# Altium footprint library Connector_Wuerth.PcbLib: 46 footprints (part 3 of 3)
Each footprint in its own frame and in the unit in brackets; x right, y up, seen from the top. Pads: shape width x height; smd on the part's side, far side on the other; paste and mask are expansions set on the pad; w line width, h text height; cw(c..) or ccw(c..) is an arc to the next point about the centre after c.
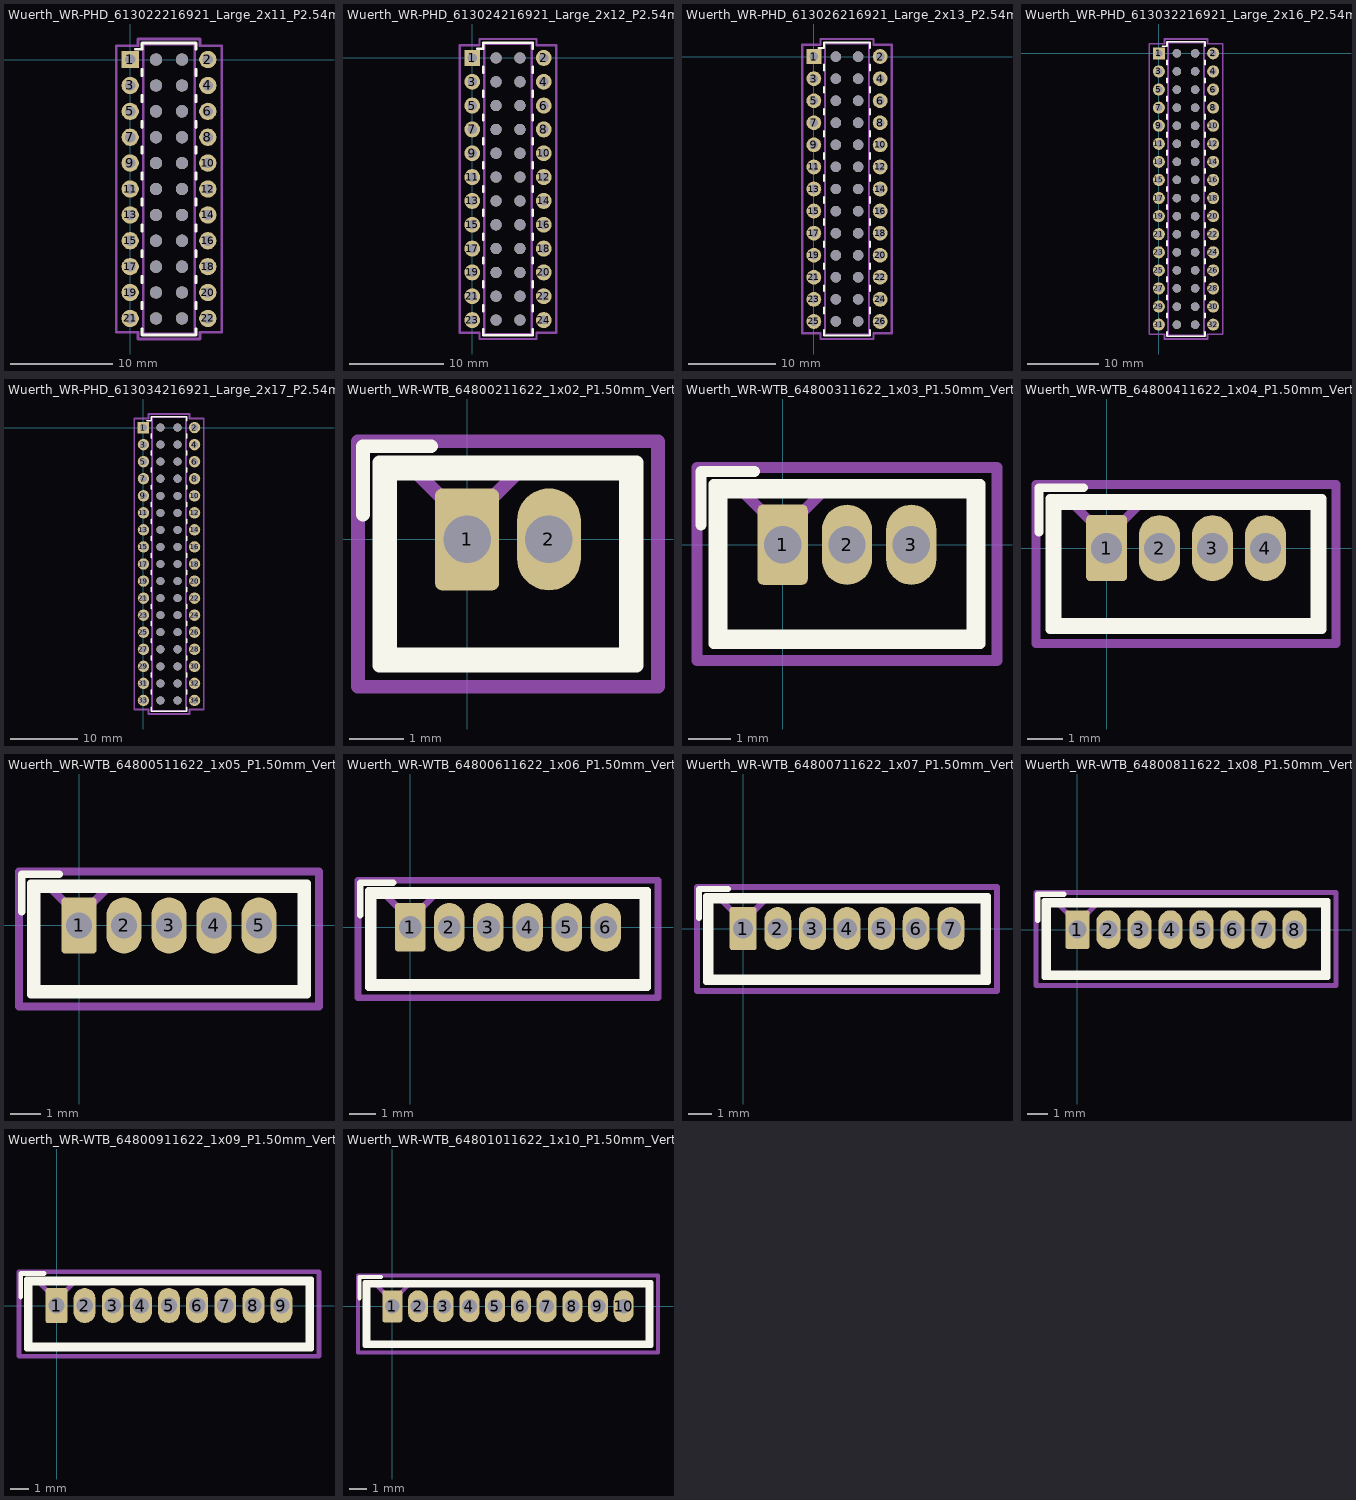
[diagram p2: the footprints below, top view; thin cyan lines are the x and y axes]

## Wuerth_WR-PHD_613022216921_Large_2x11_P2.54mm_Vertical [mm]
pads (44):
  rect 1.7x1.7 hole 1: 1(0,0)
  round 1.7 hole 1: 2(7.62,0) 3(0,-2.54) 4(7.62,-2.54) 5(0,-5.08) 6(7.62,-5.08) 7(0,-7.62) 8(7.62,-7.62) 9(0,-10.16) 10(7.62,-10.16) 11(0,-12.7) 12(7.62,-12.7) 13(0,-15.24) 14(7.62,-15.24) 15(0,-17.78) 16(7.62,-17.78) 17(0,-20.32) 18(7.62,-20.32) 19(0,-22.86) 20(7.62,-22.86) 21(0,-25.4) 22(7.62,-25.4)
  round 1.2 hole 1.2: Un1(2.54,0) Un2(2.54,-2.54) Un3(2.54,-5.08) Un4(2.54,-7.62) Un5(2.54,-10.16) Un6(2.54,-12.7) Un7(2.54,-15.24) Un8(2.54,-17.78) Un9(2.54,-20.32) Un10(2.54,-22.86) Un11(2.54,-25.4) Un12(5.08,0) Un13(5.08,-2.54) Un14(5.08,-5.08) Un15(5.08,-7.62) Un16(5.08,-10.16) Un17(5.08,-12.7) Un18(5.08,-15.24) Un19(5.08,-17.78) Un20(5.08,-20.32) Un21(5.08,-22.86) Un22(5.08,-25.4)
F.SilkS:
  lines w0.254: 0.525,0.995 1.16,0.995 1.16,1.63 6.46,1.63 6.46,0.995 ; 1.16,-26.395 1.16,-27.03 6.46,-27.03 6.46,-26.395 ; 1.16,-24.447 1.16,-23.812 ; 1.16,-21.907 1.16,-21.273 ; 1.16,-19.367 1.16,-18.732 ; 1.16,-16.828 1.16,-16.192 ; 1.16,-14.287 1.16,-13.652 ; 1.16,-11.747 1.16,-11.112 ; 1.16,-9.207 1.16,-8.572 ; 1.16,-6.667 1.16,-6.032 ; 1.16,-4.127 1.16,-3.492 ; 1.16,-1.587 1.16,-0.953 ; 6.46,-24.447 6.46,-23.812 ; 6.46,-21.907 6.46,-21.273 ; 6.46,-19.367 6.46,-18.732 ; 6.46,-16.828 6.46,-16.192 ; 6.46,-14.287 6.46,-13.652 ; 6.46,-11.747 6.46,-11.112 ; 6.46,-9.207 6.46,-8.572 ; 6.46,-6.667 6.46,-6.032 ; 6.46,-4.127 6.46,-3.492 ; 6.46,-1.587 6.46,-0.953
Top Assembly:
  lines w0.254: 1.27,-26.92 6.35,-26.92 6.35,1.52 1.27,1.52 1.27,-26.92
  text "'.Designator'" at -0.237,-0.02 h1
Top Courtyard:
  lines w0.254: -1.35,-26.75 0.77,-26.75 0.77,-27.42 6.85,-27.42 6.85,-26.75 8.97,-26.75 8.97,1.35 6.85,1.35 6.85,2.02 0.77,2.02 0.77,1.35 -1.35,1.35 -1.35,-26.75
Top Designator:
  text ".Designator" at -3.808,-13.208 h1.52

## Wuerth_WR-PHD_613024216921_Large_2x12_P2.54mm_Vertical [mm]
pads (48):
  rect 1.7x1.7 hole 1: 1(0,0)
  round 1.7 hole 1: 2(7.62,0) 3(0,-2.54) 4(7.62,-2.54) 5(0,-5.08) 6(7.62,-5.08) 7(0,-7.62) 8(7.62,-7.62) 9(0,-10.16) 10(7.62,-10.16) 11(0,-12.7) 12(7.62,-12.7) 13(0,-15.24) 14(7.62,-15.24) 15(0,-17.78) 16(7.62,-17.78) 17(0,-20.32) 18(7.62,-20.32) 19(0,-22.86) 20(7.62,-22.86) 21(0,-25.4) 22(7.62,-25.4) 23(0,-27.94) 24(7.62,-27.94)
  round 1.2 hole 1.2: Un1(2.54,0) Un2(2.54,-2.54) Un3(2.54,-5.08) Un4(2.54,-7.62) Un5(2.54,-10.16) Un6(2.54,-12.7) Un7(2.54,-15.24) Un8(2.54,-17.78) Un9(2.54,-20.32) Un10(2.54,-22.86) Un11(2.54,-25.4) Un12(2.54,-27.94) Un13(5.08,0) Un14(5.08,-2.54) Un15(5.08,-5.08) Un16(5.08,-7.62) Un17(5.08,-10.16) Un18(5.08,-12.7) Un19(5.08,-15.24) Un20(5.08,-17.78) Un21(5.08,-20.32) Un22(5.08,-22.86) Un23(5.08,-25.4) Un24(5.08,-27.94)
F.SilkS:
  lines w0.254: 0.525,0.995 1.16,0.995 1.16,1.63 6.46,1.63 6.46,0.995 ; 1.16,-28.935 1.16,-29.57 6.46,-29.57 6.46,-28.935 ; 1.16,-26.987 1.16,-26.352 ; 1.16,-24.447 1.16,-23.812 ; 1.16,-21.907 1.16,-21.273 ; 1.16,-19.367 1.16,-18.732 ; 1.16,-16.828 1.16,-16.192 ; 1.16,-14.287 1.16,-13.652 ; 1.16,-11.747 1.16,-11.112 ; 1.16,-9.207 1.16,-8.572 ; 1.16,-6.667 1.16,-6.032 ; 1.16,-4.127 1.16,-3.492 ; 1.16,-1.587 1.16,-0.953 ; 6.46,-26.987 6.46,-26.352 ; 6.46,-24.447 6.46,-23.812 ; 6.46,-21.907 6.46,-21.273 ; 6.46,-19.367 6.46,-18.732 ; 6.46,-16.828 6.46,-16.192 ; 6.46,-14.287 6.46,-13.652 ; 6.46,-11.747 6.46,-11.112 ; 6.46,-9.207 6.46,-8.572 ; 6.46,-6.667 6.46,-6.032 ; 6.46,-4.127 6.46,-3.492 ; 6.46,-1.587 6.46,-0.953
Top Assembly:
  lines w0.254: 1.27,-29.46 6.35,-29.46 6.35,1.52 1.27,1.52 1.27,-29.46
  text "'.Designator'" at -0.237,-0.02 h1
Top Courtyard:
  lines w0.254: -1.35,-29.29 0.77,-29.29 0.77,-29.96 6.85,-29.96 6.85,-29.29 8.97,-29.29 8.97,1.35 6.85,1.35 6.85,2.02 0.77,2.02 0.77,1.35 -1.35,1.35 -1.35,-29.29
Top Designator:
  text ".Designator" at -3.808,-14.478 h1.52

## Wuerth_WR-PHD_613026216921_Large_2x13_P2.54mm_Vertical [mm]
pads (52):
  rect 1.7x1.7 hole 1: 1(0,0)
  round 1.7 hole 1: 2(7.62,0) 3(0,-2.54) 4(7.62,-2.54) 5(0,-5.08) 6(7.62,-5.08) 7(0,-7.62) 8(7.62,-7.62) 9(0,-10.16) 10(7.62,-10.16) 11(0,-12.7) 12(7.62,-12.7) 13(0,-15.24) 14(7.62,-15.24) 15(0,-17.78) 16(7.62,-17.78) 17(0,-20.32) 18(7.62,-20.32) 19(0,-22.86) 20(7.62,-22.86) 21(0,-25.4) 22(7.62,-25.4) 23(0,-27.94) 24(7.62,-27.94) 25(0,-30.48) 26(7.62,-30.48)
  round 1.2 hole 1.2: Un1(2.54,0) Un2(2.54,-2.54) Un3(2.54,-5.08) Un4(2.54,-7.62) Un5(2.54,-10.16) Un6(2.54,-12.7) Un7(2.54,-15.24) Un8(2.54,-17.78) Un9(2.54,-20.32) Un10(2.54,-22.86) Un11(2.54,-25.4) Un12(2.54,-27.94) Un13(2.54,-30.48) Un14(5.08,0) Un15(5.08,-2.54) Un16(5.08,-5.08) Un17(5.08,-7.62) Un18(5.08,-10.16) Un19(5.08,-12.7) Un20(5.08,-15.24) Un21(5.08,-17.78) Un22(5.08,-20.32) Un23(5.08,-22.86) Un24(5.08,-25.4) Un25(5.08,-27.94) Un26(5.08,-30.48)
F.SilkS:
  lines w0.254: 0.525,0.995 1.16,0.995 1.16,1.63 6.46,1.63 6.46,0.995 ; 1.16,-31.475 1.16,-32.11 6.46,-32.11 6.46,-31.475 ; 1.16,-29.527 1.16,-28.892 ; 1.16,-26.987 1.16,-26.352 ; 1.16,-24.447 1.16,-23.812 ; 1.16,-21.907 1.16,-21.273 ; 1.16,-19.367 1.16,-18.732 ; 1.16,-16.828 1.16,-16.192 ; 1.16,-14.287 1.16,-13.652 ; 1.16,-11.747 1.16,-11.112 ; 1.16,-9.207 1.16,-8.572 ; 1.16,-6.667 1.16,-6.032 ; 1.16,-4.127 1.16,-3.492 ; 1.16,-1.587 1.16,-0.953 ; 6.46,-29.527 6.46,-28.892 ; 6.46,-26.987 6.46,-26.352 ; 6.46,-24.447 6.46,-23.812 ; 6.46,-21.907 6.46,-21.273 ; 6.46,-19.367 6.46,-18.732 ; 6.46,-16.828 6.46,-16.192 ; 6.46,-14.287 6.46,-13.652 ; 6.46,-11.747 6.46,-11.112 ; 6.46,-9.207 6.46,-8.572 ; 6.46,-6.667 6.46,-6.032 ; 6.46,-4.127 6.46,-3.492 ; 6.46,-1.587 6.46,-0.953
Top Assembly:
  lines w0.254: 1.27,-32 6.35,-32 6.35,1.52 1.27,1.52 1.27,-32
  text "'.Designator'" at -0.237,-0.02 h1
Top Courtyard:
  lines w0.254: -1.35,-31.83 0.77,-31.83 0.77,-32.5 6.85,-32.5 6.85,-31.83 8.97,-31.83 8.97,1.35 6.85,1.35 6.85,2.02 0.77,2.02 0.77,1.35 -1.35,1.35 -1.35,-31.83
Top Designator:
  text ".Designator" at -3.808,-15.748 h1.52

## Wuerth_WR-PHD_613032216921_Large_2x16_P2.54mm_Vertical [mm]
pads (64):
  rect 1.7x1.7 hole 1: 1(0,0)
  round 1.7 hole 1: 2(7.62,0) 3(0,-2.54) 4(7.62,-2.54) 5(0,-5.08) 6(7.62,-5.08) 7(0,-7.62) 8(7.62,-7.62) 9(0,-10.16) 10(7.62,-10.16) 11(0,-12.7) 12(7.62,-12.7) 13(0,-15.24) 14(7.62,-15.24) 15(0,-17.78) 16(7.62,-17.78) 17(0,-20.32) 18(7.62,-20.32) 19(0,-22.86) 20(7.62,-22.86) 21(0,-25.4) 22(7.62,-25.4) 23(0,-27.94) 24(7.62,-27.94) 25(0,-30.48) 26(7.62,-30.48) 27(0,-33.02) 28(7.62,-33.02) 29(0,-35.56) 30(7.62,-35.56) 31(0,-38.1) 32(7.62,-38.1)
  round 1.2 hole 1.2: Un1(2.54,0) Un2(2.54,-2.54) Un3(2.54,-5.08) Un4(2.54,-7.62) Un5(2.54,-10.16) Un6(2.54,-12.7) Un7(2.54,-15.24) Un8(2.54,-17.78) Un9(2.54,-20.32) Un10(2.54,-22.86) Un11(2.54,-25.4) Un12(2.54,-27.94) Un13(2.54,-30.48) Un14(2.54,-33.02) Un15(2.54,-35.56) Un16(2.54,-38.1) Un17(5.08,0) Un18(5.08,-2.54) Un19(5.08,-5.08) Un20(5.08,-7.62) Un21(5.08,-10.16) Un22(5.08,-12.7) Un23(5.08,-15.24) Un24(5.08,-17.78) Un25(5.08,-20.32) Un26(5.08,-22.86) Un27(5.08,-25.4) Un28(5.08,-27.94) Un29(5.08,-30.48) Un30(5.08,-33.02) Un31(5.08,-35.56) Un32(5.08,-38.1)
F.SilkS:
  lines w0.254: 0.525,0.995 1.16,0.995 1.16,1.63 6.46,1.63 6.46,0.995 ; 1.16,-39.095 1.16,-39.73 6.46,-39.73 6.46,-39.095 ; 1.16,-37.148 1.16,-36.512 ; 1.16,-34.608 1.16,-33.972 ; 1.16,-32.067 1.16,-31.432 ; 1.16,-29.527 1.16,-28.892 ; 1.16,-26.987 1.16,-26.352 ; 1.16,-24.447 1.16,-23.812 ; 1.16,-21.907 1.16,-21.273 ; 1.16,-19.367 1.16,-18.732 ; 1.16,-16.828 1.16,-16.192 ; 1.16,-14.287 1.16,-13.652 ; 1.16,-11.747 1.16,-11.112 ; 1.16,-9.207 1.16,-8.572 ; 1.16,-6.667 1.16,-6.032 ; 1.16,-4.127 1.16,-3.492 ; 1.16,-1.587 1.16,-0.953 ; 6.46,-37.148 6.46,-36.512 ; 6.46,-34.608 6.46,-33.972 ; 6.46,-32.067 6.46,-31.432 ; 6.46,-29.527 6.46,-28.892 ; 6.46,-26.987 6.46,-26.352 ; 6.46,-24.447 6.46,-23.812 ; 6.46,-21.907 6.46,-21.273 ; 6.46,-19.367 6.46,-18.732 ; 6.46,-16.828 6.46,-16.192 ; 6.46,-14.287 6.46,-13.652 ; 6.46,-11.747 6.46,-11.112 ; 6.46,-9.207 6.46,-8.572 ; 6.46,-6.667 6.46,-6.032 ; 6.46,-4.127 6.46,-3.492 ; 6.46,-1.587 6.46,-0.953
Top Assembly:
  lines w0.254: 1.27,-39.62 6.35,-39.62 6.35,1.52 1.27,1.52 1.27,-39.62
  text "'.Designator'" at -0.237,-0.02 h1
Top Courtyard:
  lines w0.254: -1.35,-39.45 0.77,-39.45 0.77,-40.12 6.85,-40.12 6.85,-39.45 8.97,-39.45 8.97,1.35 6.85,1.35 6.85,2.02 0.77,2.02 0.77,1.35 -1.35,1.35 -1.35,-39.45
Top Designator:
  text ".Designator" at -3.808,-19.558 h1.52

## Wuerth_WR-PHD_613034216921_Large_2x17_P2.54mm_Vertical [mm]
pads (68):
  rect 1.7x1.7 hole 1: 1(0,0)
  round 1.7 hole 1: 2(7.62,0) 3(0,-2.54) 4(7.62,-2.54) 5(0,-5.08) 6(7.62,-5.08) 7(0,-7.62) 8(7.62,-7.62) 9(0,-10.16) 10(7.62,-10.16) 11(0,-12.7) 12(7.62,-12.7) 13(0,-15.24) 14(7.62,-15.24) 15(0,-17.78) 16(7.62,-17.78) 17(0,-20.32) 18(7.62,-20.32) 19(0,-22.86) 20(7.62,-22.86) 21(0,-25.4) 22(7.62,-25.4) 23(0,-27.94) 24(7.62,-27.94) 25(0,-30.48) 26(7.62,-30.48) 27(0,-33.02) 28(7.62,-33.02) 29(0,-35.56) 30(7.62,-35.56) 31(0,-38.1) 32(7.62,-38.1) 33(0,-40.64) 34(7.62,-40.64)
  round 1.2 hole 1.2: Un1(2.54,0) Un2(2.54,-2.54) Un3(2.54,-5.08) Un4(2.54,-7.62) Un5(2.54,-10.16) Un6(2.54,-12.7) Un7(2.54,-15.24) Un8(2.54,-17.78) Un9(2.54,-20.32) Un10(2.54,-22.86) Un11(2.54,-25.4) Un12(2.54,-27.94) Un13(2.54,-30.48) Un14(2.54,-33.02) Un15(2.54,-35.56) Un16(2.54,-38.1) Un17(2.54,-40.64) Un18(5.08,0) Un19(5.08,-2.54) Un20(5.08,-5.08) Un21(5.08,-7.62) Un22(5.08,-10.16) Un23(5.08,-12.7) Un24(5.08,-15.24) Un25(5.08,-17.78) Un26(5.08,-20.32) Un27(5.08,-22.86) Un28(5.08,-25.4) Un29(5.08,-27.94) Un30(5.08,-30.48) Un31(5.08,-33.02) Un32(5.08,-35.56) Un33(5.08,-38.1) Un34(5.08,-40.64)
F.SilkS:
  lines w0.254: 0.525,0.995 1.16,0.995 1.16,1.63 6.46,1.63 6.46,0.995 ; 1.16,-41.635 1.16,-42.27 6.46,-42.27 6.46,-41.635 ; 1.16,-39.688 1.16,-39.052 ; 1.16,-37.148 1.16,-36.512 ; 1.16,-34.608 1.16,-33.972 ; 1.16,-32.067 1.16,-31.432 ; 1.16,-29.527 1.16,-28.892 ; 1.16,-26.987 1.16,-26.352 ; 1.16,-24.447 1.16,-23.812 ; 1.16,-21.907 1.16,-21.273 ; 1.16,-19.367 1.16,-18.732 ; 1.16,-16.828 1.16,-16.192 ; 1.16,-14.287 1.16,-13.652 ; 1.16,-11.747 1.16,-11.112 ; 1.16,-9.207 1.16,-8.572 ; 1.16,-6.667 1.16,-6.032 ; 1.16,-4.127 1.16,-3.492 ; 1.16,-1.587 1.16,-0.953 ; 6.46,-39.688 6.46,-39.052 ; 6.46,-37.148 6.46,-36.512 ; 6.46,-34.608 6.46,-33.972 ; 6.46,-32.067 6.46,-31.432 ; 6.46,-29.527 6.46,-28.892 ; 6.46,-26.987 6.46,-26.352 ; 6.46,-24.447 6.46,-23.812 ; 6.46,-21.907 6.46,-21.273 ; 6.46,-19.367 6.46,-18.732 ; 6.46,-16.828 6.46,-16.192 ; 6.46,-14.287 6.46,-13.652 ; 6.46,-11.747 6.46,-11.112 ; 6.46,-9.207 6.46,-8.572 ; 6.46,-6.667 6.46,-6.032 ; 6.46,-4.127 6.46,-3.492 ; 6.46,-1.587 6.46,-0.953
Top Assembly:
  lines w0.254: 1.27,-42.16 6.35,-42.16 6.35,1.52 1.27,1.52 1.27,-42.16
  text "'.Designator'" at -0.237,-0.02 h1
Top Courtyard:
  lines w0.254: -1.35,-41.99 0.77,-41.99 0.77,-42.66 6.85,-42.66 6.85,-41.99 8.97,-41.99 8.97,1.35 6.85,1.35 6.85,2.02 0.77,2.02 0.77,1.35 -1.35,1.35 -1.35,-41.99
Top Designator:
  text ".Designator" at -3.808,-20.828 h1.52

## Wuerth_WR-WTB_64800211622_1x02_P1.50mm_Vertical [mm]
pads (2):
  rrect21% 1.17x1.87 hole 0.87: 1(0,0)
  rrect100% 1.17x1.87 hole 0.87: 2(1.5,0)
F.SilkS:
  lines w0.254: -1.91,0.46 -1.91,1.71 -0.66,1.71 ; -1.61,-0.35 -1.41,-0.35 ; -1.61,0.35 -1.41,0.35 ; 3.11,-0.35 2.91,-0.35 ; 3.11,0.35 2.91,0.35 ; -1.41,-0.35 -1.41,-2.11 2.91,-2.11 2.91,-0.35 ; -1.41,-0.35 -1.41,0.35 ; -1.41,0.35 -1.41,1.21 2.91,1.21 2.91,0.35 ; 2.91,-0.35 2.91,0.35 ; -1.61,-2.31 3.11,-2.31 3.11,1.41 -1.61,1.41 -1.61,-2.31
Top Assembly:
  lines w0.254: -1,1.3 0,0.3 1,1.3 ; -1.5,-2.2 3,-2.2 3,1.3 -1.5,1.3 -1.5,-2.2
  text "'.Designator'" at -3.297,-2.34 h1
Top Courtyard:
  lines w0.254: -2,-2.7 3.5,-2.7 3.5,1.8 -2,1.8 -2,-2.7
Top Designator:
  text ".Designator" at -7.018,-0.958 h1.52

## Wuerth_WR-WTB_64800311622_1x03_P1.50mm_Vertical [mm]
pads (3):
  rrect21% 1.17x1.87 hole 0.87: 1(0,0)
  rrect100% 1.17x1.87 hole 0.87: 2(1.5,0) 3(3,0)
F.SilkS:
  lines w0.254: -1.91,0.46 -1.91,1.71 -0.66,1.71 ; -1.61,-0.35 -1.41,-0.35 ; -1.61,0.35 -1.41,0.35 ; 4.61,-0.35 4.41,-0.35 ; 4.61,0.35 4.41,0.35 ; -1.41,-0.35 -1.41,-2.11 4.41,-2.11 4.41,-0.35 ; -1.41,-0.35 -1.41,0.35 ; -1.41,0.35 -1.41,1.21 4.41,1.21 4.41,0.35 ; 4.41,-0.35 4.41,0.35 ; -1.61,-2.31 4.61,-2.31 4.61,1.41 -1.61,1.41 -1.61,-2.31
Top Assembly:
  lines w0.254: -1,1.3 0,0.3 1,1.3 ; -1.5,-2.2 4.5,-2.2 4.5,1.3 -1.5,1.3 -1.5,-2.2
  text "'.Designator'" at -2.547,-2.34 h1
Top Courtyard:
  lines w0.254: -2,-2.7 5,-2.7 5,1.8 -2,1.8 -2,-2.7
Top Designator:
  text ".Designator" at -6.268,-0.958 h1.52

## Wuerth_WR-WTB_64800411622_1x04_P1.50mm_Vertical [mm]
pads (4):
  rrect21% 1.17x1.87 hole 0.87: 1(0,0)
  rrect100% 1.17x1.87 hole 0.87: 2(1.5,0) 3(3,0) 4(4.5,0)
F.SilkS:
  lines w0.254: -1.91,0.46 -1.91,1.71 -0.66,1.71 ; -1.61,-0.35 -1.41,-0.35 ; -1.61,0.35 -1.41,0.35 ; 6.11,-0.35 5.91,-0.35 ; 6.11,0.35 5.91,0.35 ; -1.41,-0.35 -1.41,-2.11 5.91,-2.11 5.91,-0.35 ; -1.41,-0.35 -1.41,0.35 ; -1.41,0.35 -1.41,1.21 5.91,1.21 5.91,0.35 ; 5.91,-0.35 5.91,0.35 ; -1.61,-2.31 6.11,-2.31 6.11,1.41 -1.61,1.41 -1.61,-2.31
Top Assembly:
  lines w0.254: -1,1.3 0,0.3 1,1.3 ; -1.5,-2.2 6,-2.2 6,1.3 -1.5,1.3 -1.5,-2.2
  text "'.Designator'" at -1.797,-2.34 h1
Top Courtyard:
  lines w0.254: -2,-2.7 6.5,-2.7 6.5,1.8 -2,1.8 -2,-2.7
Top Designator:
  text ".Designator" at -5.368,-0.958 h1.52

## Wuerth_WR-WTB_64800511622_1x05_P1.50mm_Vertical [mm]
pads (5):
  rrect21% 1.17x1.87 hole 0.87: 1(0,0)
  rrect100% 1.17x1.87 hole 0.87: 2(1.5,0) 3(3,0) 4(4.5,0) 5(6,0)
F.SilkS:
  lines w0.254: -1.91,0.46 -1.91,1.71 -0.66,1.71 ; -1.61,-0.35 -1.41,-0.35 ; -1.61,0.35 -1.41,0.35 ; 7.61,-0.35 7.41,-0.35 ; 7.61,0.35 7.41,0.35 ; -1.41,-0.35 -1.41,-2.11 7.41,-2.11 7.41,-0.35 ; -1.41,-0.35 -1.41,0.35 ; -1.41,0.35 -1.41,1.21 7.41,1.21 7.41,0.35 ; 7.41,-0.35 7.41,0.35 ; -1.61,-2.31 7.61,-2.31 7.61,1.41 -1.61,1.41 -1.61,-2.31
Top Assembly:
  lines w0.254: -1,1.3 0,0.3 1,1.3 ; -1.5,-2.2 7.5,-2.2 7.5,1.3 -1.5,1.3 -1.5,-2.2
  text "'.Designator'" at -1.047,-2.34 h1
Top Courtyard:
  lines w0.254: -2,-2.7 8,-2.7 8,1.8 -2,1.8 -2,-2.7
Top Designator:
  text ".Designator" at -4.618,-0.958 h1.52

## Wuerth_WR-WTB_64800611622_1x06_P1.50mm_Vertical [mm]
pads (6):
  rrect21% 1.17x1.87 hole 0.87: 1(0,0)
  rrect100% 1.17x1.87 hole 0.87: 2(1.5,0) 3(3,0) 4(4.5,0) 5(6,0) 6(7.5,0)
F.SilkS:
  lines w0.254: -1.91,0.46 -1.91,1.71 -0.66,1.71 ; -1.61,-0.35 -1.41,-0.35 ; -1.61,0.35 -1.41,0.35 ; 9.11,-0.35 8.91,-0.35 ; 9.11,0.35 8.91,0.35 ; -1.41,-0.35 -1.41,-2.11 8.91,-2.11 8.91,-0.35 ; -1.41,-0.35 -1.41,0.35 ; -1.41,0.35 -1.41,1.21 8.91,1.21 8.91,0.35 ; 8.91,-0.35 8.91,0.35 ; -1.61,-2.31 9.11,-2.31 9.11,1.41 -1.61,1.41 -1.61,-2.31
Top Assembly:
  lines w0.254: -1,1.3 0,0.3 1,1.3 ; -1.5,-2.2 9,-2.2 9,1.3 -1.5,1.3 -1.5,-2.2
  text "'.Designator'" at -0.297,-2.34 h1
Top Courtyard:
  lines w0.254: -2,-2.7 9.5,-2.7 9.5,1.8 -2,1.8 -2,-2.7
Top Designator:
  text ".Designator" at -3.868,-0.958 h1.52

## Wuerth_WR-WTB_64800711622_1x07_P1.50mm_Vertical [mm]
pads (7):
  rrect21% 1.17x1.87 hole 0.87: 1(0,0)
  rrect100% 1.17x1.87 hole 0.87: 2(1.5,0) 3(3,0) 4(4.5,0) 5(6,0) 6(7.5,0) 7(9,0)
F.SilkS:
  lines w0.254: -1.91,0.46 -1.91,1.71 -0.66,1.71 ; -1.61,-0.35 -1.41,-0.35 ; -1.61,0.35 -1.41,0.35 ; 10.61,-0.35 10.41,-0.35 ; 10.61,0.35 10.41,0.35 ; -1.41,-0.35 -1.41,-2.11 10.41,-2.11 10.41,-0.35 ; -1.41,-0.35 -1.41,0.35 ; -1.41,0.35 -1.41,1.21 10.41,1.21 10.41,0.35 ; 10.41,-0.35 10.41,0.35 ; -1.61,-2.31 10.61,-2.31 10.61,1.41 -1.61,1.41 -1.61,-2.31
Top Assembly:
  lines w0.254: -1,1.3 0,0.3 1,1.3 ; -1.5,-2.2 10.5,-2.2 10.5,1.3 -1.5,1.3 -1.5,-2.2
  text "'.Designator'" at 0.453,-2.34 h1
Top Courtyard:
  lines w0.254: -2,-2.7 11,-2.7 11,1.8 -2,1.8 -2,-2.7
Top Designator:
  text ".Designator" at -3.118,-0.958 h1.52

## Wuerth_WR-WTB_64800811622_1x08_P1.50mm_Vertical [mm]
pads (8):
  rrect21% 1.17x1.87 hole 0.87: 1(0,0)
  rrect100% 1.17x1.87 hole 0.87: 2(1.5,0) 3(3,0) 4(4.5,0) 5(6,0) 6(7.5,0) 7(9,0) 8(10.5,0)
F.SilkS:
  lines w0.254: -1.91,0.46 -1.91,1.71 -0.66,1.71 ; -1.61,-0.35 -1.41,-0.35 ; -1.61,0.35 -1.41,0.35 ; 12.11,-0.35 11.91,-0.35 ; 12.11,0.35 11.91,0.35 ; -1.41,-0.35 -1.41,-2.11 11.91,-2.11 11.91,-0.35 ; -1.41,-0.35 -1.41,0.35 ; -1.41,0.35 -1.41,1.21 11.91,1.21 11.91,0.35 ; 11.91,-0.35 11.91,0.35 ; -1.61,-2.31 12.11,-2.31 12.11,1.41 -1.61,1.41 -1.61,-2.31
Top Assembly:
  lines w0.254: -1,1.3 0,0.3 1,1.3 ; -1.5,-2.2 12,-2.2 12,1.3 -1.5,1.3 -1.5,-2.2
  text "'.Designator'" at 1.203,-2.34 h1
Top Courtyard:
  lines w0.254: -2,-2.7 12.5,-2.7 12.5,1.8 -2,1.8 -2,-2.7
Top Designator:
  text ".Designator" at -2.368,-0.958 h1.52

## Wuerth_WR-WTB_64800911622_1x09_P1.50mm_Vertical [mm]
pads (9):
  rrect21% 1.17x1.87 hole 0.87: 1(0,0)
  rrect100% 1.17x1.87 hole 0.87: 2(1.5,0) 3(3,0) 4(4.5,0) 5(6,0) 6(7.5,0) 7(9,0) 8(10.5,0) 9(12,0)
F.SilkS:
  lines w0.254: -1.91,0.46 -1.91,1.71 -0.66,1.71 ; -1.61,-0.35 -1.41,-0.35 ; -1.61,0.35 -1.41,0.35 ; 13.61,-0.35 13.41,-0.35 ; 13.61,0.35 13.41,0.35 ; -1.41,-0.35 -1.41,-2.11 13.41,-2.11 13.41,-0.35 ; -1.41,-0.35 -1.41,0.35 ; -1.41,0.35 -1.41,1.21 13.41,1.21 13.41,0.35 ; 13.41,-0.35 13.41,0.35 ; -1.61,-2.31 13.61,-2.31 13.61,1.41 -1.61,1.41 -1.61,-2.31
Top Assembly:
  lines w0.254: -1,1.3 0,0.3 1,1.3 ; -1.5,-2.2 13.5,-2.2 13.5,1.3 -1.5,1.3 -1.5,-2.2
  text "'.Designator'" at 1.953,-2.34 h1
Top Courtyard:
  lines w0.254: -2,-2.7 14,-2.7 14,1.8 -2,1.8 -2,-2.7
Top Designator:
  text ".Designator" at -1.618,-0.958 h1.52

## Wuerth_WR-WTB_64801011622_1x10_P1.50mm_Vertical [mm]
pads (10):
  rrect21% 1.17x1.87 hole 0.87: 1(0,0)
  rrect100% 1.17x1.87 hole 0.87: 2(1.5,0) 3(3,0) 4(4.5,0) 5(6,0) 6(7.5,0) 7(9,0) 8(10.5,0) 9(12,0) 10(13.5,0)
F.SilkS:
  lines w0.254: -1.91,0.46 -1.91,1.71 -0.66,1.71 ; -1.61,-0.35 -1.41,-0.35 ; -1.61,0.35 -1.41,0.35 ; 15.11,-0.35 14.91,-0.35 ; 15.11,0.35 14.91,0.35 ; -1.41,-0.35 -1.41,-2.11 14.91,-2.11 14.91,-0.35 ; -1.41,-0.35 -1.41,0.35 ; -1.41,0.35 -1.41,1.21 14.91,1.21 14.91,0.35 ; 14.91,-0.35 14.91,0.35 ; -1.61,-2.31 15.11,-2.31 15.11,1.41 -1.61,1.41 -1.61,-2.31
Top Assembly:
  lines w0.254: -1,1.3 0,0.3 1,1.3 ; -1.5,-2.2 15,-2.2 15,1.3 -1.5,1.3 -1.5,-2.2
  text "'.Designator'" at 2.703,-2.34 h1
Top Courtyard:
  lines w0.254: -2,-2.7 15.5,-2.7 15.5,1.8 -2,1.8 -2,-2.7
Top Designator:
  text ".Designator" at -0.868,-0.958 h1.52